# Altium integrated library Maxim Converter Analog to Digital.IntLib: 88 symbols (part 2 of 3)
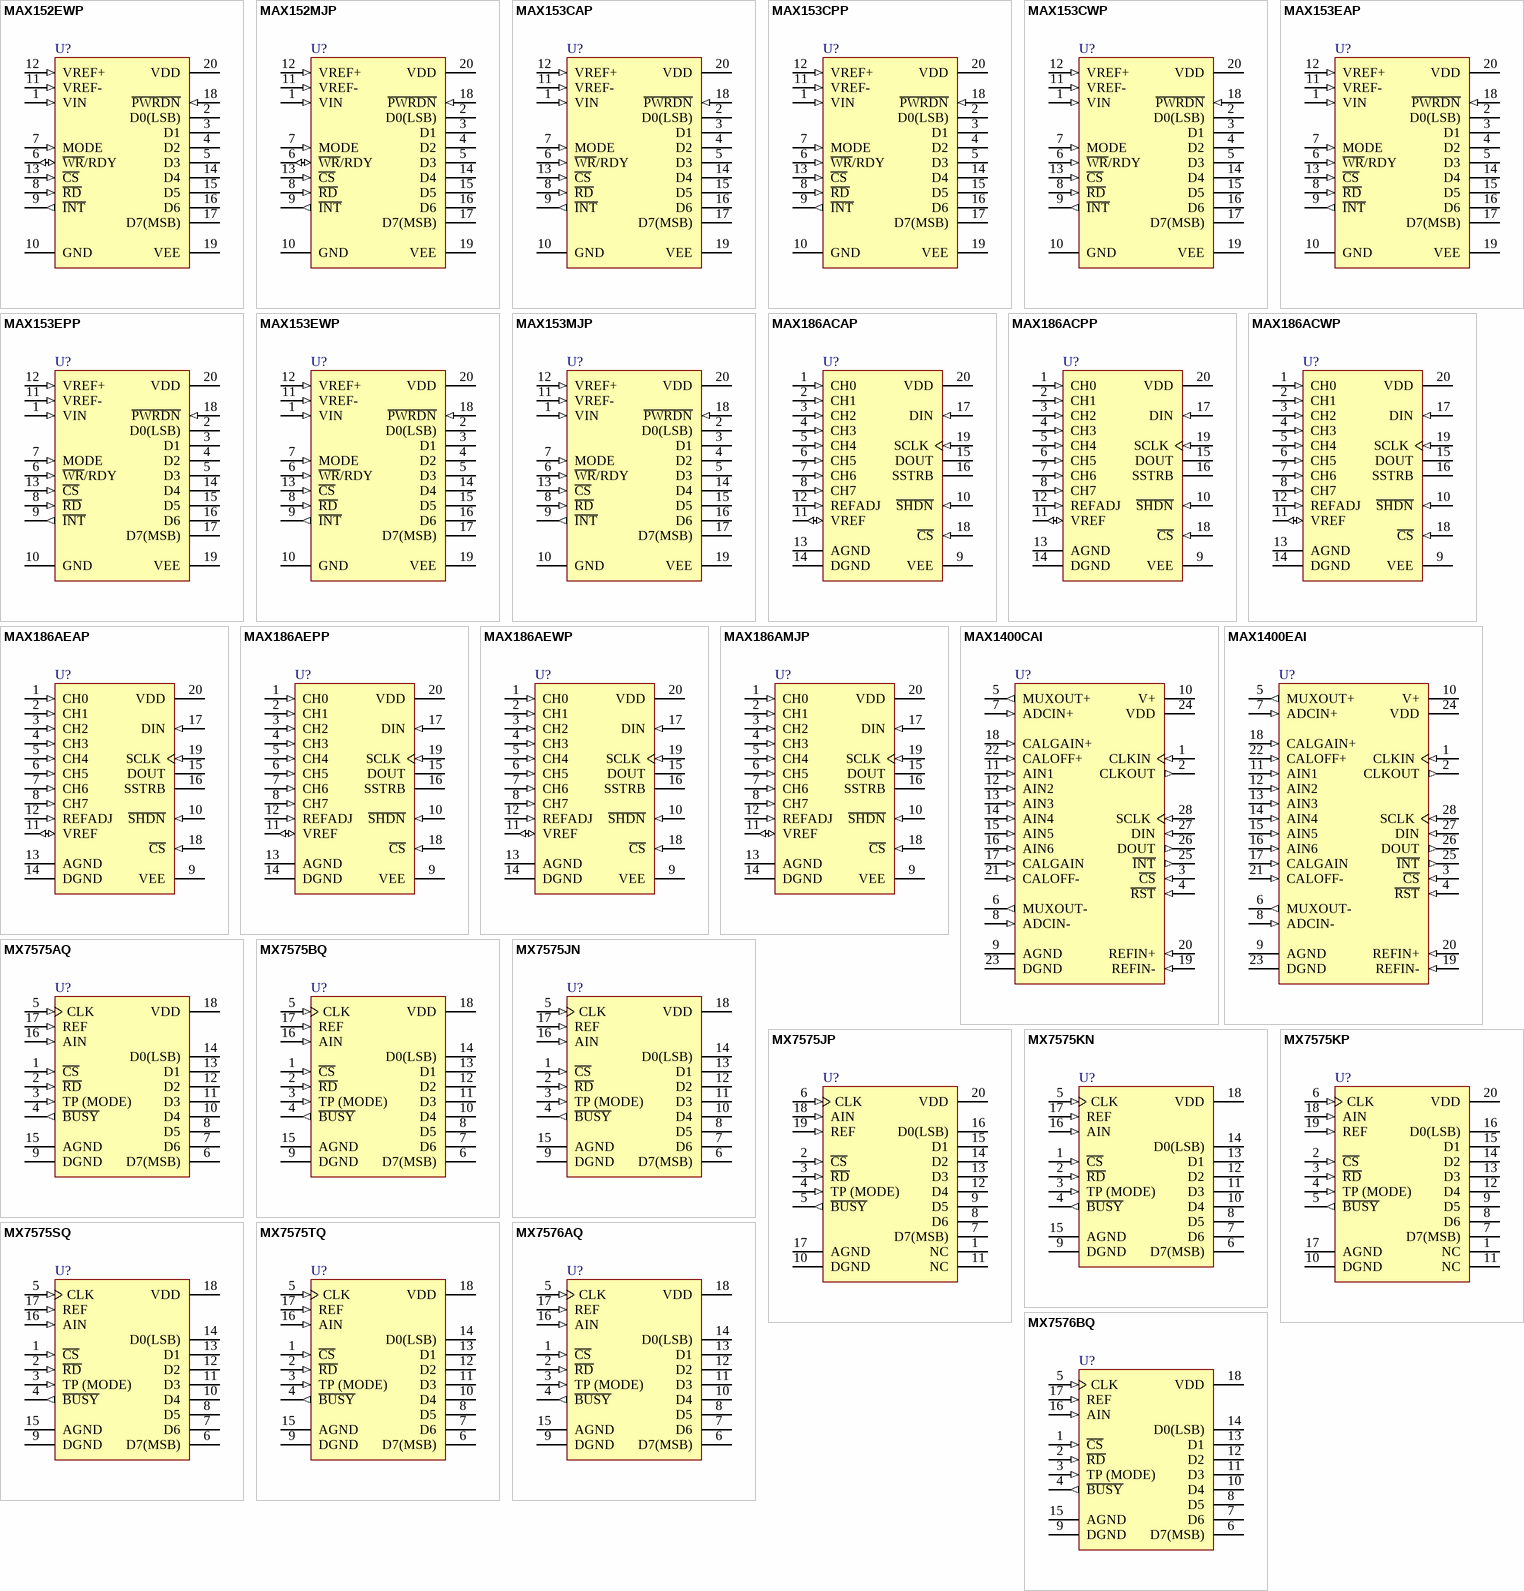
[diagram p4: symbols MAX152EWP to MX7576BQ]

## MAX153CAP
designator U?
1 Msps, µP-compatible, 8-Bit ADC with 1µA Power-Down; Published: 16-Jan-2001; LatestRevisionDate: 29-May-2009; LatestRevisionNote: IPC-7351 Footprint Added.; DatasheetVersion: Oct-1993; PackageVersion: 1997; PackageReference: SSOP20; Publisher: Altium Limited; PackageDescription: 20-Pin Small Outline Package 0.65 mm Pitch; Code_JEDEC: MO-150-AE; Code_IPC: SOP65P780-20; ComponentLink1Description: Manufacturer Link; ComponentLink1URL: http://www.maxim-ic.com/; ComponentLink2Description: Datasheet; ComponentLink2URL: http://pdfserv.maxim-ic.com/en/ds/MAX153.pdf
footprint SSOP20_N (SOP, 20-Leads, Body 7.2x5.3mm, Pitch 0.65mm, IPC Medium Density)
footprint SSOP20_L (SOP, 20-Leads, Body 7.2x5.3mm, Pitch 0.65mm, IPC High Density)
footprint SSOP20_M (SOP, 20-Leads, Body 7.2x5.3mm, Pitch 0.65mm, IPC Low Density)
3D model SSOP20 (20-Pin Small Outline Package 0.65 mm Pitch)
pins: 1 VIN (in), 2 D0(LSB) (hiz), 3 D1 (hiz), 4 D2 (hiz), 5 D3 (hiz), 6 ~{WR}/RDY (in), 7 MODE (in), 8 ~{RD} (in), 9 ~{INT} (out), 10 GND (power), 11 VREF- (in), 12 VREF+ (in), 13 ~{CS} (in), 14 D4 (hiz), 15 D5 (hiz), 16 D6 (hiz), 17 D7(MSB) (hiz), 18 ~{PWRDN} (in), 19 VEE (power), 20 VDD (power)

## MAX153CPP
designator U?
1 Msps, µP-compatible, 8-Bit ADC with 1µA Power-Down; Published: 16-Jan-2001; LatestRevisionDate: 29-May-2009; LatestRevisionNote: Component Body Added.; DatasheetVersion: Oct-1993; PackageVersion: RevB, 21-0043; PackageReference: PP20; Publisher: Altium Limited; PackageDescription: DIP, 20-Pin, Row Spacing 7.62 mm, Pitch 2.54 mm; Code_JEDEC: MS-001-AE; ComponentLink1Description: Manufacturer Link; ComponentLink1URL: http://www.maxim-ic.com/; ComponentLink2Description: Datasheet; ComponentLink2URL: http://pdfserv.maxim-ic.com/en/ds/MAX153.pdf
footprint PP20 (DIP, 20-Leads, Row Spacing 7.62mm, Pitch 2.54mm, Body 26.16x7.24mm)
3D model PP20 (DIP, 20-Pin, Row Spacing 7.62 mm, Pitch 2.54 mm)
pins: 1 VIN (in), 2 D0(LSB) (hiz), 3 D1 (hiz), 4 D2 (hiz), 5 D3 (hiz), 6 ~{WR}/RDY (in), 7 MODE (in), 8 ~{RD} (in), 9 ~{INT} (out), 10 GND (power), 11 VREF- (in), 12 VREF+ (in), 13 ~{CS} (in), 14 D4 (hiz), 15 D5 (hiz), 16 D6 (hiz), 17 D7(MSB) (hiz), 18 ~{PWRDN} (in), 19 VEE (power), 20 VDD (power)

## MAX153CWP
designator U?
1 Msps, µP-compatible, 8-Bit ADC with 1µA Power-Down; Published: 16-Jan-2001; LatestRevisionDate: 13-Apr-2006; LatestRevisionNote: IPC-7351 Footprint Added.; DatasheetVersion: Oct-1993; PackageReference: WSO20; Publisher: Altium Limited; PackageDescription: 20-Pin Small Outline Integrated Circuit 1.27 mm Pitch; Code_JEDEC: MS-013-AC; Code_IPC: SOIC127P1030-20; ComponentLink1Description: Manufacturer Link; ComponentLink1URL: http://www.maxim-ic.com/; ComponentLink2Description: Datasheet; ComponentLink2URL: http://pdfserv.maxim-ic.com/en/ds/MAX153.pdf
footprint WSO20_N (SOIC, 20-Leads, Body 12.8x7.5mm, Pitch 1.27mm, IPC Medium Density)
footprint WSO20_L (SOIC, 20-Leads, Body 12.8x7.5mm, Pitch 1.27mm, IPC High Density)
footprint WSO20_M (SOIC, 20-Leads, Body 12.8x7.5mm, Pitch 1.27mm, IPC Low Density)
3D model WSO20 (20-Pin Small Outline Integrated Circuit 1.27 mm Pitch)
pins: 1 VIN (in), 2 D0(LSB) (hiz), 3 D1 (hiz), 4 D2 (hiz), 5 D3 (hiz), 6 ~{WR}/RDY (in), 7 MODE (in), 8 ~{RD} (in), 9 ~{INT} (out), 10 GND (power), 11 VREF- (in), 12 VREF+ (in), 13 ~{CS} (in), 14 D4 (hiz), 15 D5 (hiz), 16 D6 (hiz), 17 D7(MSB) (hiz), 18 ~{PWRDN} (in), 19 VEE (power), 20 VDD (power)

## MAX153EAP
designator U?
1 Msps, µP-compatible, 8-Bit ADC with 1µA Power-Down; Published: 16-Jan-2001; LatestRevisionDate: 29-May-2009; LatestRevisionNote: IPC-7351 Footprint Added.; DatasheetVersion: Oct-1993; PackageVersion: 1997; PackageReference: SSOP20; Publisher: Altium Limited; PackageDescription: 20-Pin Small Outline Package 0.65 mm Pitch; Code_JEDEC: MO-150-AE; Code_IPC: SOP65P780-20; ComponentLink1Description: Manufacturer Link; ComponentLink1URL: http://www.maxim-ic.com/; ComponentLink2Description: Datasheet; ComponentLink2URL: http://pdfserv.maxim-ic.com/en/ds/MAX153.pdf
footprint SSOP20_N (SOP, 20-Leads, Body 7.2x5.3mm, Pitch 0.65mm, IPC Medium Density)
footprint SSOP20_L (SOP, 20-Leads, Body 7.2x5.3mm, Pitch 0.65mm, IPC High Density)
footprint SSOP20_M (SOP, 20-Leads, Body 7.2x5.3mm, Pitch 0.65mm, IPC Low Density)
3D model SSOP20 (20-Pin Small Outline Package 0.65 mm Pitch)
pins: 1 VIN (in), 2 D0(LSB) (hiz), 3 D1 (hiz), 4 D2 (hiz), 5 D3 (hiz), 6 ~{WR}/RDY (in), 7 MODE (in), 8 ~{RD} (in), 9 ~{INT} (out), 10 GND (power), 11 VREF- (in), 12 VREF+ (in), 13 ~{CS} (in), 14 D4 (hiz), 15 D5 (hiz), 16 D6 (hiz), 17 D7(MSB) (hiz), 18 ~{PWRDN} (in), 19 VEE (power), 20 VDD (power)

## MAX153EPP
designator U?
1 Msps, µP-compatible, 8-Bit ADC with 1µA Power-Down; Published: 16-Jan-2001; LatestRevisionDate: 29-May-2009; LatestRevisionNote: Component Body Added.; DatasheetVersion: Oct-1993; PackageVersion: RevB, 21-0043; PackageReference: PP20; Publisher: Altium Limited; PackageDescription: DIP, 20-Pin, Row Spacing 7.62 mm, Pitch 2.54 mm; Code_JEDEC: MS-001-AE; ComponentLink1Description: Manufacturer Link; ComponentLink1URL: http://www.maxim-ic.com/; ComponentLink2Description: Datasheet; ComponentLink2URL: http://pdfserv.maxim-ic.com/en/ds/MAX153.pdf
footprint PP20 (DIP, 20-Leads, Row Spacing 7.62mm, Pitch 2.54mm, Body 26.16x7.24mm)
3D model PP20 (DIP, 20-Pin, Row Spacing 7.62 mm, Pitch 2.54 mm)
pins: 1 VIN (in), 2 D0(LSB) (hiz), 3 D1 (hiz), 4 D2 (hiz), 5 D3 (hiz), 6 ~{WR}/RDY (in), 7 MODE (in), 8 ~{RD} (in), 9 ~{INT} (out), 10 GND (power), 11 VREF- (in), 12 VREF+ (in), 13 ~{CS} (in), 14 D4 (hiz), 15 D5 (hiz), 16 D6 (hiz), 17 D7(MSB) (hiz), 18 ~{PWRDN} (in), 19 VEE (power), 20 VDD (power)

## MAX153EWP
designator U?
1 Msps, µP-compatible, 8-Bit ADC with 1µA Power-Down; Published: 16-Jan-2001; LatestRevisionDate: 13-Apr-2006; LatestRevisionNote: IPC-7351 Footprint Added.; DatasheetVersion: Oct-1993; PackageReference: WSO20; Publisher: Altium Limited; PackageDescription: 20-Pin Small Outline Integrated Circuit 1.27 mm Pitch; Code_JEDEC: MS-013-AC; Code_IPC: SOIC127P1030-20; ComponentLink1Description: Manufacturer Link; ComponentLink1URL: http://www.maxim-ic.com/; ComponentLink2Description: Datasheet; ComponentLink2URL: http://pdfserv.maxim-ic.com/en/ds/MAX153.pdf
footprint WSO20_N (SOIC, 20-Leads, Body 12.8x7.5mm, Pitch 1.27mm, IPC Medium Density)
footprint WSO20_L (SOIC, 20-Leads, Body 12.8x7.5mm, Pitch 1.27mm, IPC High Density)
footprint WSO20_M (SOIC, 20-Leads, Body 12.8x7.5mm, Pitch 1.27mm, IPC Low Density)
3D model WSO20 (20-Pin Small Outline Integrated Circuit 1.27 mm Pitch)
pins: 1 VIN (in), 2 D0(LSB) (hiz), 3 D1 (hiz), 4 D2 (hiz), 5 D3 (hiz), 6 ~{WR}/RDY (in), 7 MODE (in), 8 ~{RD} (in), 9 ~{INT} (out), 10 GND (power), 11 VREF- (in), 12 VREF+ (in), 13 ~{CS} (in), 14 D4 (hiz), 15 D5 (hiz), 16 D6 (hiz), 17 D7(MSB) (hiz), 18 ~{PWRDN} (in), 19 VEE (power), 20 VDD (power)

## MAX153MJP
designator U?
1 Msps, µP-compatible, 8-Bit ADC with 1µA Power-Down; Published: 16-Jan-2001; LatestRevisionDate: 29-May-2009; LatestRevisionNote: Component Body Added.; DatasheetVersion: Oct-1993; PackageVersion: 1996; PackageReference: JP20; Publisher: Altium Limited; PackageDescription: DIP, 20-Pin, Row Spacing 7.62 mm, Pitch 2.54 mm; Code_JEDEC: MS-001-AD; ComponentLink1Description: Manufacturer Link; ComponentLink1URL: http://www.maxim-ic.com/; ComponentLink2Description: Datasheet; ComponentLink2URL: http://pdfserv.maxim-ic.com/en/ds/MAX153.pdf
footprint JP20 (DIP, 20-Leads, Row Spacing 7.62mm, Pitch 2.54mm, Body 25.91x6.73mm)
3D model PP20 (DIP, 20-Pin, Row Spacing 7.62 mm, Pitch 2.54 mm)
pins: 1 VIN (in), 2 D0(LSB) (hiz), 3 D1 (hiz), 4 D2 (hiz), 5 D3 (hiz), 6 ~{WR}/RDY (in), 7 MODE (in), 8 ~{RD} (in), 9 ~{INT} (out), 10 GND (power), 11 VREF- (in), 12 VREF+ (in), 13 ~{CS} (in), 14 D4 (hiz), 15 D5 (hiz), 16 D6 (hiz), 17 D7(MSB) (hiz), 18 ~{PWRDN} (in), 19 VEE (power), 20 VDD (power)

## MAX186ACAP
designator U?
Low-Power, 8-Channel Serial 12-Bit ADCs; Published: 16-Jan-2001; LatestRevisionDate: 29-May-2009; LatestRevisionNote: IPC-7351 Footprint Added.; DatasheetVersion: Aug-1996; PackageVersion: 1997; PackageReference: SSOP20; Publisher: Altium Limited; PackageDescription: 20-Pin Small Outline Package 0.65 mm Pitch; Code_JEDEC: MO-150-AE; Code_IPC: SOP65P780-20; ComponentLink1Description: Manufacturer Link; ComponentLink1URL: http://www.maxim-ic.com/; ComponentLink2Description: Datasheet; ComponentLink2URL: http://pdfserv.maxim-ic.com/en/ds/MAX186-MAX188.pdf
footprint SSOP20_N (SOP, 20-Leads, Body 7.2x5.3mm, Pitch 0.65mm, IPC Medium Density)
footprint SSOP20_L (SOP, 20-Leads, Body 7.2x5.3mm, Pitch 0.65mm, IPC High Density)
footprint SSOP20_M (SOP, 20-Leads, Body 7.2x5.3mm, Pitch 0.65mm, IPC Low Density)
3D model SSOP20 (20-Pin Small Outline Package 0.65 mm Pitch)
pins: 1 CH0 (in), 2 CH1 (in), 3 CH2 (in), 4 CH3 (in), 5 CH4 (in), 6 CH5 (in), 7 CH6 (in), 8 CH7 (in), 9 VEE (power), 10 ~{SHDN} (in), 11 VREF (io), 12 REFADJ (in), 13 AGND (power), 14 DGND (power), 15 DOUT (hiz), 16 SSTRB (hiz), 17 DIN (in), 18 ~{CS} (in), 19 SCLK (in), 20 VDD (power)

## MAX186ACPP
designator U?
Low-Power, 8-Channel Serial 12-Bit ADCs; Published: 16-Jan-2001; LatestRevisionDate: 29-May-2009; LatestRevisionNote: Component Body Added.; DatasheetVersion: Aug-1996; PackageVersion: RevB, 21-0043; PackageReference: PP20; Publisher: Altium Limited; PackageDescription: DIP, 20-Pin, Row Spacing 7.62 mm, Pitch 2.54 mm; Code_JEDEC: MS-001-AE; ComponentLink1Description: Manufacturer Link; ComponentLink1URL: http://www.maxim-ic.com/; ComponentLink2Description: Datasheet; ComponentLink2URL: http://pdfserv.maxim-ic.com/en/ds/MAX186-MAX188.pdf
footprint PP20 (DIP, 20-Leads, Row Spacing 7.62mm, Pitch 2.54mm, Body 26.16x7.24mm)
3D model PP20 (DIP, 20-Pin, Row Spacing 7.62 mm, Pitch 2.54 mm)
pins: 1 CH0 (in), 2 CH1 (in), 3 CH2 (in), 4 CH3 (in), 5 CH4 (in), 6 CH5 (in), 7 CH6 (in), 8 CH7 (in), 9 VEE (power), 10 ~{SHDN} (in), 11 VREF (io), 12 REFADJ (in), 13 AGND (power), 14 DGND (power), 15 DOUT (hiz), 16 SSTRB (hiz), 17 DIN (in), 18 ~{CS} (in), 19 SCLK (in), 20 VDD (power)

## MAX186ACWP
designator U?
Low-Power, 8-Channel Serial 12-Bit ADCs; Published: 16-Jan-2001; LatestRevisionDate: 13-Apr-2006; LatestRevisionNote: IPC-7351 Footprint Added.; DatasheetVersion: Aug-1996; PackageReference: WSO20; Publisher: Altium Limited; PackageDescription: 20-Pin Small Outline Integrated Circuit 1.27 mm Pitch; Code_JEDEC: MS-013-AC; Code_IPC: SOIC127P1030-20; ComponentLink1Description: Manufacturer Link; ComponentLink1URL: http://www.maxim-ic.com/; ComponentLink2Description: Datasheet; ComponentLink2URL: http://pdfserv.maxim-ic.com/en/ds/MAX186-MAX188.pdf
footprint WSO20_N (SOIC, 20-Leads, Body 12.8x7.5mm, Pitch 1.27mm, IPC Medium Density)
footprint WSO20_L (SOIC, 20-Leads, Body 12.8x7.5mm, Pitch 1.27mm, IPC High Density)
footprint WSO20_M (SOIC, 20-Leads, Body 12.8x7.5mm, Pitch 1.27mm, IPC Low Density)
3D model WSO20 (20-Pin Small Outline Integrated Circuit 1.27 mm Pitch)
pins: 1 CH0 (in), 2 CH1 (in), 3 CH2 (in), 4 CH3 (in), 5 CH4 (in), 6 CH5 (in), 7 CH6 (in), 8 CH7 (in), 9 VEE (power), 10 ~{SHDN} (in), 11 VREF (io), 12 REFADJ (in), 13 AGND (power), 14 DGND (power), 15 DOUT (hiz), 16 SSTRB (hiz), 17 DIN (in), 18 ~{CS} (in), 19 SCLK (in), 20 VDD (power)

## MAX186AEAP
designator U?
Low-Power, 8-Channel Serial 12-Bit ADCs; Published: 16-Jan-2001; LatestRevisionDate: 29-May-2009; LatestRevisionNote: IPC-7351 Footprint Added.; DatasheetVersion: Aug-1996; PackageVersion: 1997; PackageReference: SSOP20; Publisher: Altium Limited; PackageDescription: 20-Pin Small Outline Package 0.65 mm Pitch; Code_JEDEC: MO-150-AE; Code_IPC: SOP65P780-20; ComponentLink1Description: Manufacturer Link; ComponentLink1URL: http://www.maxim-ic.com/; ComponentLink2Description: Datasheet; ComponentLink2URL: http://pdfserv.maxim-ic.com/en/ds/MAX186-MAX188.pdf
footprint SSOP20_N (SOP, 20-Leads, Body 7.2x5.3mm, Pitch 0.65mm, IPC Medium Density)
footprint SSOP20_L (SOP, 20-Leads, Body 7.2x5.3mm, Pitch 0.65mm, IPC High Density)
footprint SSOP20_M (SOP, 20-Leads, Body 7.2x5.3mm, Pitch 0.65mm, IPC Low Density)
3D model SSOP20 (20-Pin Small Outline Package 0.65 mm Pitch)
pins: 1 CH0 (in), 2 CH1 (in), 3 CH2 (in), 4 CH3 (in), 5 CH4 (in), 6 CH5 (in), 7 CH6 (in), 8 CH7 (in), 9 VEE (power), 10 ~{SHDN} (in), 11 VREF (io), 12 REFADJ (in), 13 AGND (power), 14 DGND (power), 15 DOUT (hiz), 16 SSTRB (hiz), 17 DIN (in), 18 ~{CS} (in), 19 SCLK (in), 20 VDD (power)

## MAX186AEPP
designator U?
Low-Power, 8-Channel Serial 12-Bit ADCs; Published: 16-Jan-2001; LatestRevisionDate: 29-May-2009; LatestRevisionNote: Component Body Added.; DatasheetVersion: Aug-1996; PackageVersion: RevB, 21-0043; PackageReference: PP20; Publisher: Altium Limited; PackageDescription: DIP, 20-Pin, Row Spacing 7.62 mm, Pitch 2.54 mm; Code_JEDEC: MS-001-AE; ComponentLink1Description: Manufacturer Link; ComponentLink1URL: http://www.maxim-ic.com/; ComponentLink2Description: Datasheet; ComponentLink2URL: http://pdfserv.maxim-ic.com/en/ds/MAX186-MAX188.pdf
footprint PP20 (DIP, 20-Leads, Row Spacing 7.62mm, Pitch 2.54mm, Body 26.16x7.24mm)
3D model PP20 (DIP, 20-Pin, Row Spacing 7.62 mm, Pitch 2.54 mm)
pins: 1 CH0 (in), 2 CH1 (in), 3 CH2 (in), 4 CH3 (in), 5 CH4 (in), 6 CH5 (in), 7 CH6 (in), 8 CH7 (in), 9 VEE (power), 10 ~{SHDN} (in), 11 VREF (io), 12 REFADJ (in), 13 AGND (power), 14 DGND (power), 15 DOUT (hiz), 16 SSTRB (hiz), 17 DIN (in), 18 ~{CS} (in), 19 SCLK (in), 20 VDD (power)

## MAX186AEWP
designator U?
Low-Power, 8-Channel Serial 12-Bit ADCs; Published: 16-Jan-2001; LatestRevisionDate: 13-Apr-2006; LatestRevisionNote: IPC-7351 Footprint Added.; DatasheetVersion: Aug-1996; PackageReference: WSO20; Publisher: Altium Limited; PackageDescription: 20-Pin Small Outline Integrated Circuit 1.27 mm Pitch; Code_JEDEC: MS-013-AC; Code_IPC: SOIC127P1030-20; ComponentLink1Description: Manufacturer Link; ComponentLink1URL: http://www.maxim-ic.com/; ComponentLink2Description: Datasheet; ComponentLink2URL: http://pdfserv.maxim-ic.com/en/ds/MAX186-MAX188.pdf
footprint WSO20_N (SOIC, 20-Leads, Body 12.8x7.5mm, Pitch 1.27mm, IPC Medium Density)
footprint WSO20_L (SOIC, 20-Leads, Body 12.8x7.5mm, Pitch 1.27mm, IPC High Density)
footprint WSO20_M (SOIC, 20-Leads, Body 12.8x7.5mm, Pitch 1.27mm, IPC Low Density)
3D model WSO20 (20-Pin Small Outline Integrated Circuit 1.27 mm Pitch)
pins: 1 CH0 (in), 2 CH1 (in), 3 CH2 (in), 4 CH3 (in), 5 CH4 (in), 6 CH5 (in), 7 CH6 (in), 8 CH7 (in), 9 VEE (power), 10 ~{SHDN} (in), 11 VREF (io), 12 REFADJ (in), 13 AGND (power), 14 DGND (power), 15 DOUT (hiz), 16 SSTRB (hiz), 17 DIN (in), 18 ~{CS} (in), 19 SCLK (in), 20 VDD (power)

## MAX186AMJP
designator U?
Low-Power, 8-Channel Serial 12-Bit ADCs; Published: 16-Jan-2001; LatestRevisionDate: 29-May-2009; LatestRevisionNote: Component Body Added.; DatasheetVersion: Aug-1996; PackageVersion: 1996; PackageReference: JP20; Publisher: Altium Limited; PackageDescription: DIP, 20-Pin, Row Spacing 7.62 mm, Pitch 2.54 mm; Code_JEDEC: MS-001-AD; ComponentLink1Description: Manufacturer Link; ComponentLink1URL: http://www.maxim-ic.com/; ComponentLink2Description: Datasheet; ComponentLink2URL: http://pdfserv.maxim-ic.com/en/ds/MAX186-MAX188.pdf
footprint JP20 (DIP, 20-Leads, Row Spacing 7.62mm, Pitch 2.54mm, Body 25.91x6.73mm)
3D model PP20 (DIP, 20-Pin, Row Spacing 7.62 mm, Pitch 2.54 mm)
pins: 1 CH0 (in), 2 CH1 (in), 3 CH2 (in), 4 CH3 (in), 5 CH4 (in), 6 CH5 (in), 7 CH6 (in), 8 CH7 (in), 9 VEE (power), 10 ~{SHDN} (in), 11 VREF (io), 12 REFADJ (in), 13 AGND (power), 14 DGND (power), 15 DOUT (hiz), 16 SSTRB (hiz), 17 DIN (in), 18 ~{CS} (in), 19 SCLK (in), 20 VDD (power)

## MAX1400CAI
designator U?
+5V, 18-Bit, Low-Power, Multichannel, Oversampling (Sigma-Delta) ADC; Published: 16-Jan-2001; LatestRevisionDate: 29-May-2009; LatestRevisionNote: IPC-7351 Footprint Added.; DatasheetVersion: Feb-1999; PackageVersion: Jul-2000; PackageReference: SSOP28; Publisher: Altium Limited; PackageDescription: 28-Pin Small Outline Package 0.65 mm Pitch; Code_JEDEC: MO-150-AH; Code_IPC: SOP65P780-28; ComponentLink1Description: Manufacturer Link; ComponentLink1URL: http://www.maxim-ic.com/; ComponentLink2Description: Datasheet; ComponentLink2URL: http://pdfserv.maxim-ic.com/en/ds/MAX1400.pdf
footprint SSOP28_N (SOP, 28-Leads, Body 10.2x5.3mm, Pitch 0.65mm, IPC Medium Density)
footprint SSOP28_L (SOP, 28-Leads, Body 10.2x5.3mm, Pitch 0.65mm, IPC High Density)
footprint SSOP28_M (SOP, 28-Leads, Body 10.2x5.3mm, Pitch 0.65mm, IPC Low Density)
3D model SSOP28 (28-Pin Small Outline Package 0.65 mm Pitch)
pins: 1 CLKIN (in), 2 CLKOUT (out), 3 ~{CS} (in), 4 ~{RST} (in), 5 MUXOUT+ (out), 6 MUXOUT- (out), 7 ADCIN+ (in), 8 ADCIN- (in), 9 AGND (power), 10 V+ (power), 11 AIN1 (in), 12 AIN2 (in), 13 AIN3 (in), 14 AIN4 (in), 15 AIN5 (in), 16 AIN6 (in), 17 CALGAIN (in), 18 CALGAIN+ (in), 19 REFIN- (in), 20 REFIN+ (in), 21 CALOFF- (in), 22 CALOFF+ (in), 23 DGND (power), 24 VDD (power), 25 ~{INT} (out), 26 DOUT (out), 27 DIN (in), 28 SCLK (in)

## MAX1400EAI
designator U?
+5V, 18-Bit, Low-Power, Multichannel, Oversampling (Sigma-Delta) ADC; Published: 16-Jan-2001; LatestRevisionDate: 29-May-2009; LatestRevisionNote: IPC-7351 Footprint Added.; DatasheetVersion: Feb-1999; PackageVersion: Jul-2000; PackageReference: SSOP28; Publisher: Altium Limited; PackageDescription: 28-Pin Small Outline Package 0.65 mm Pitch; Code_JEDEC: MO-150-AH; Code_IPC: SOP65P780-28; ComponentLink1Description: Manufacturer Link; ComponentLink1URL: http://www.maxim-ic.com/; ComponentLink2Description: Datasheet; ComponentLink2URL: http://pdfserv.maxim-ic.com/en/ds/MAX1400.pdf
footprint SSOP28_N (SOP, 28-Leads, Body 10.2x5.3mm, Pitch 0.65mm, IPC Medium Density)
footprint SSOP28_L (SOP, 28-Leads, Body 10.2x5.3mm, Pitch 0.65mm, IPC High Density)
footprint SSOP28_M (SOP, 28-Leads, Body 10.2x5.3mm, Pitch 0.65mm, IPC Low Density)
3D model SSOP28 (28-Pin Small Outline Package 0.65 mm Pitch)
pins: 1 CLKIN (in), 2 CLKOUT (out), 3 ~{CS} (in), 4 ~{RST} (in), 5 MUXOUT+ (out), 6 MUXOUT- (out), 7 ADCIN+ (in), 8 ADCIN- (in), 9 AGND (power), 10 V+ (power), 11 AIN1 (in), 12 AIN2 (in), 13 AIN3 (in), 14 AIN4 (in), 15 AIN5 (in), 16 AIN6 (in), 17 CALGAIN (in), 18 CALGAIN+ (in), 19 REFIN- (in), 20 REFIN+ (in), 21 CALOFF- (in), 22 CALOFF+ (in), 23 DGND (power), 24 VDD (power), 25 ~{INT} (out), 26 DOUT (out), 27 DIN (in), 28 SCLK (in)

## MX7575AQ
designator U?
CMOS, µP-Compatible, 5µs 8-Bit ADCs; Published: 16-Jan-2001; LatestRevisionDate: 29-May-2009; LatestRevisionNote: Component Body Added.; DatasheetVersion: May-1996; PackageVersion: 1996; PackageReference: JN18; Publisher: Altium Limited; PackageDescription: DIP, 18-Pin, Row Spacing 7.62 mm, Pitch 2.54 mm; ComponentLink1Description: Manufacturer Link; ComponentLink1URL: http://www.maxim-ic.com/; ComponentLink2Description: Datasheet; ComponentLink2URL: http://pdfserv.maxim-ic.com/en/ds/MX7575-MX7576.pdf
footprint JN18 (DIP, 18-Leads, Row Spacing 7.62mm, Pitch 2.54mm, Body 24.13x6.73mm)
3D model JN18 (DIP, 18-Pin, Row Spacing 7.62 mm, Pitch 2.54 mm)
pins: 1 ~{CS} (in), 2 ~{RD} (in), 3 TP (MODE) (in), 4 ~{BUSY} (out), 5 CLK (in), 6 D7(MSB) (hiz), 7 D6 (hiz), 8 D5 (hiz), 9 DGND (power), 10 D4 (hiz), 11 D3 (hiz), 12 D2 (hiz), 13 D1 (hiz), 14 D0(LSB) (hiz), 15 AGND (power), 16 AIN (in), 17 REF (in), 18 VDD (power)

## MX7575BQ
designator U?
CMOS, µP-Compatible, 5µs 8-Bit ADCs; Published: 16-Jan-2001; LatestRevisionDate: 29-May-2009; LatestRevisionNote: Component Body Added.; DatasheetVersion: May-1996; PackageVersion: 1996; PackageReference: JN18; Publisher: Altium Limited; PackageDescription: DIP, 18-Pin, Row Spacing 7.62 mm, Pitch 2.54 mm; ComponentLink1Description: Manufacturer Link; ComponentLink1URL: http://www.maxim-ic.com/; ComponentLink2Description: Datasheet; ComponentLink2URL: http://pdfserv.maxim-ic.com/en/ds/MX7575-MX7576.pdf
footprint JN18 (DIP, 18-Leads, Row Spacing 7.62mm, Pitch 2.54mm, Body 24.13x6.73mm)
3D model JN18 (DIP, 18-Pin, Row Spacing 7.62 mm, Pitch 2.54 mm)
pins: 1 ~{CS} (in), 2 ~{RD} (in), 3 TP (MODE) (in), 4 ~{BUSY} (out), 5 CLK (in), 6 D7(MSB) (hiz), 7 D6 (hiz), 8 D5 (hiz), 9 DGND (power), 10 D4 (hiz), 11 D3 (hiz), 12 D2 (hiz), 13 D1 (hiz), 14 D0(LSB) (hiz), 15 AGND (power), 16 AIN (in), 17 REF (in), 18 VDD (power)

## MX7575JN
designator U?
CMOS, µP-Compatible, 5µs 8-Bit ADCs; Published: 16-Jan-2001; LatestRevisionDate: 29-May-2009; LatestRevisionNote: Component Body Added.; DatasheetVersion: May-1996; PackageVersion: 1997; PackageReference: PN18A; Publisher: Altium Limited; PackageDescription: DIP, 18-Pin, Row Spacing 7.62 mm, Pitch 2.54 mm; ComponentLink1Description: Manufacturer Link; ComponentLink1URL: http://www.maxim-ic.com/; ComponentLink2Description: Datasheet; ComponentLink2URL: http://pdfserv.maxim-ic.com/en/ds/MX7575-MX7576.pdf
footprint PN18A (DIP, 18-Leads, Row Spacing 7.62mm, Pitch 2.54mm, Body 22.86x6.99mm)
3D model PN18 (DIP, 18-Pin, Row Spacing 7.62 mm, Pitch 2.54 mm)
pins: 1 ~{CS} (in), 2 ~{RD} (in), 3 TP (MODE) (in), 4 ~{BUSY} (out), 5 CLK (in), 6 D7(MSB) (hiz), 7 D6 (hiz), 8 D5 (hiz), 9 DGND (power), 10 D4 (hiz), 11 D3 (hiz), 12 D2 (hiz), 13 D1 (hiz), 14 D0(LSB) (hiz), 15 AGND (power), 16 AIN (in), 17 REF (in), 18 VDD (power)

## MX7575JP
designator U?
CMOS, µP-Compatible, 5µs 8-Bit ADCs; Published: 16-Jan-2001; LatestRevisionDate: 13-Apr-2006; LatestRevisionNote: IPC-7351 Footprint Added.; DatasheetVersion: May-1996; PackageReference: PLCC20; Publisher: Altium Limited; PackageDescription: 20-Pin Leaded Chip Carrier 1.27 mm Pitch; Code_IPC: PLCC-20; ComponentLink1Description: Manufacturer Link; ComponentLink1URL: http://www.maxim-ic.com/; ComponentLink2Description: Datasheet; ComponentLink2URL: http://pdfserv.maxim-ic.com/en/ds/MX7575-MX7576.pdf
footprint PLCC20_N (Leaded Chip Carrier, 20-Leads, Body 9x9mm, Pitch 1.27mm, IPC Medium Density)
footprint PLCC20_L (Leaded Chip Carrier, 20-Leads, Body 9x9mm, Pitch 1.27mm, IPC High Density)
footprint PLCC20_M (Leaded Chip Carrier, 20-Leads, Body 9x9mm, Pitch 1.27mm, IPC Low Density)
3D model MX7575-PLCC20 (20-Pin Leaded Chip Carrier 1.27 mm Pitch)
pins: 1 NC, 2 ~{CS} (in), 3 ~{RD} (in), 4 TP (MODE) (in), 5 ~{BUSY} (out), 6 CLK (in), 7 D7(MSB) (hiz), 8 D6 (hiz), 9 D5 (hiz), 10 DGND (power), 11 NC, 12 D4 (hiz), 13 D3 (hiz), 14 D2 (hiz), 15 D1 (hiz), 16 D0(LSB) (hiz), 17 AGND (power), 18 AIN (in), 19 REF (in), 20 VDD (power)

## MX7575KN
designator U?
CMOS, µP-Compatible, 5µs 8-Bit ADCs; Published: 16-Jan-2001; LatestRevisionDate: 29-May-2009; LatestRevisionNote: Component Body Added.; DatasheetVersion: May-1996; PackageVersion: 1997; PackageReference: PN18A; Publisher: Altium Limited; PackageDescription: DIP, 18-Pin, Row Spacing 7.62 mm, Pitch 2.54 mm; ComponentLink1Description: Manufacturer Link; ComponentLink1URL: http://www.maxim-ic.com/; ComponentLink2Description: Datasheet; ComponentLink2URL: http://pdfserv.maxim-ic.com/en/ds/MX7575-MX7576.pdf
footprint PN18A (DIP, 18-Leads, Row Spacing 7.62mm, Pitch 2.54mm, Body 22.86x6.99mm)
3D model PN18 (DIP, 18-Pin, Row Spacing 7.62 mm, Pitch 2.54 mm)
pins: 1 ~{CS} (in), 2 ~{RD} (in), 3 TP (MODE) (in), 4 ~{BUSY} (out), 5 CLK (in), 6 D7(MSB) (hiz), 7 D6 (hiz), 8 D5 (hiz), 9 DGND (power), 10 D4 (hiz), 11 D3 (hiz), 12 D2 (hiz), 13 D1 (hiz), 14 D0(LSB) (hiz), 15 AGND (power), 16 AIN (in), 17 REF (in), 18 VDD (power)

## MX7575KP
designator U?
CMOS, µP-Compatible, 5µs 8-Bit ADCs; Published: 16-Jan-2001; LatestRevisionDate: 13-Apr-2006; LatestRevisionNote: IPC-7351 Footprint Added.; DatasheetVersion: May-1996; PackageReference: PLCC20; Publisher: Altium Limited; PackageDescription: 20-Pin Leaded Chip Carrier 1.27 mm Pitch; Code_IPC: PLCC-20; ComponentLink1Description: Manufacturer Link; ComponentLink1URL: http://www.maxim-ic.com/; ComponentLink2Description: Datasheet; ComponentLink2URL: http://pdfserv.maxim-ic.com/en/ds/MX7575-MX7576.pdf
footprint PLCC20_N (Leaded Chip Carrier, 20-Leads, Body 9x9mm, Pitch 1.27mm, IPC Medium Density)
footprint PLCC20_L (Leaded Chip Carrier, 20-Leads, Body 9x9mm, Pitch 1.27mm, IPC High Density)
footprint PLCC20_M (Leaded Chip Carrier, 20-Leads, Body 9x9mm, Pitch 1.27mm, IPC Low Density)
3D model MX7575-PLCC20 (20-Pin Leaded Chip Carrier 1.27 mm Pitch)
pins: 1 NC, 2 ~{CS} (in), 3 ~{RD} (in), 4 TP (MODE) (in), 5 ~{BUSY} (out), 6 CLK (in), 7 D7(MSB) (hiz), 8 D6 (hiz), 9 D5 (hiz), 10 DGND (power), 11 NC, 12 D4 (hiz), 13 D3 (hiz), 14 D2 (hiz), 15 D1 (hiz), 16 D0(LSB) (hiz), 17 AGND (power), 18 AIN (in), 19 REF (in), 20 VDD (power)

## MX7575SQ
designator U?
CMOS, µP-Compatible, 5µs 8-Bit ADCs; Published: 16-Jan-2001; LatestRevisionDate: 29-May-2009; LatestRevisionNote: Component Body Added.; DatasheetVersion: May-1996; PackageVersion: 1996; PackageReference: JN18; Publisher: Altium Limited; PackageDescription: DIP, 18-Pin, Row Spacing 7.62 mm, Pitch 2.54 mm; ComponentLink1Description: Manufacturer Link; ComponentLink1URL: http://www.maxim-ic.com/; ComponentLink2Description: Datasheet; ComponentLink2URL: http://pdfserv.maxim-ic.com/en/ds/MX7575-MX7576.pdf
footprint JN18 (DIP, 18-Leads, Row Spacing 7.62mm, Pitch 2.54mm, Body 24.13x6.73mm)
3D model JN18 (DIP, 18-Pin, Row Spacing 7.62 mm, Pitch 2.54 mm)
pins: 1 ~{CS} (in), 2 ~{RD} (in), 3 TP (MODE) (in), 4 ~{BUSY} (out), 5 CLK (in), 6 D7(MSB) (hiz), 7 D6 (hiz), 8 D5 (hiz), 9 DGND (power), 10 D4 (hiz), 11 D3 (hiz), 12 D2 (hiz), 13 D1 (hiz), 14 D0(LSB) (hiz), 15 AGND (power), 16 AIN (in), 17 REF (in), 18 VDD (power)

## MX7575TQ
designator U?
CMOS, µP-Compatible, 5µs 8-Bit ADCs; Published: 16-Jan-2001; LatestRevisionDate: 29-May-2009; LatestRevisionNote: Component Body Added.; DatasheetVersion: May-1996; PackageVersion: 1996; PackageReference: JN18; Publisher: Altium Limited; PackageDescription: DIP, 18-Pin, Row Spacing 7.62 mm, Pitch 2.54 mm; ComponentLink1Description: Manufacturer Link; ComponentLink1URL: http://www.maxim-ic.com/; ComponentLink2Description: Datasheet; ComponentLink2URL: http://pdfserv.maxim-ic.com/en/ds/MX7575-MX7576.pdf
footprint JN18 (DIP, 18-Leads, Row Spacing 7.62mm, Pitch 2.54mm, Body 24.13x6.73mm)
3D model JN18 (DIP, 18-Pin, Row Spacing 7.62 mm, Pitch 2.54 mm)
pins: 1 ~{CS} (in), 2 ~{RD} (in), 3 TP (MODE) (in), 4 ~{BUSY} (out), 5 CLK (in), 6 D7(MSB) (hiz), 7 D6 (hiz), 8 D5 (hiz), 9 DGND (power), 10 D4 (hiz), 11 D3 (hiz), 12 D2 (hiz), 13 D1 (hiz), 14 D0(LSB) (hiz), 15 AGND (power), 16 AIN (in), 17 REF (in), 18 VDD (power)

## MX7576AQ
designator U?
CMOS, µP-Compatible, 10µs 8-Bit ADCs; Published: 16-Jan-2001; LatestRevisionDate: 29-May-2009; LatestRevisionNote: Component Body Added.; DatasheetVersion: May-1996; PackageVersion: 1996; PackageReference: JN18; Publisher: Altium Limited; PackageDescription: DIP, 18-Pin, Row Spacing 7.62 mm, Pitch 2.54 mm; ComponentLink1Description: Manufacturer Link; ComponentLink1URL: http://www.maxim-ic.com/; ComponentLink2Description: Datasheet; ComponentLink2URL: http://pdfserv.maxim-ic.com/en/ds/MX7575-MX7576.pdf
footprint JN18 (DIP, 18-Leads, Row Spacing 7.62mm, Pitch 2.54mm, Body 24.13x6.73mm)
3D model JN18 (DIP, 18-Pin, Row Spacing 7.62 mm, Pitch 2.54 mm)
pins: 1 ~{CS} (in), 2 ~{RD} (in), 3 TP (MODE) (in), 4 ~{BUSY} (out), 5 CLK (in), 6 D7(MSB) (hiz), 7 D6 (hiz), 8 D5 (hiz), 9 DGND (power), 10 D4 (hiz), 11 D3 (hiz), 12 D2 (hiz), 13 D1 (hiz), 14 D0(LSB) (hiz), 15 AGND (power), 16 AIN (in), 17 REF (in), 18 VDD (power)

## MX7576BQ
designator U?
CMOS, µP-Compatible, 10µs 8-Bit ADCs; Published: 16-Jan-2001; LatestRevisionDate: 29-May-2009; LatestRevisionNote: Component Body Added.; DatasheetVersion: May-1996; PackageVersion: 1996; PackageReference: JN18; Publisher: Altium Limited; PackageDescription: DIP, 18-Pin, Row Spacing 7.62 mm, Pitch 2.54 mm; ComponentLink1Description: Manufacturer Link; ComponentLink1URL: http://www.maxim-ic.com/; ComponentLink2Description: Datasheet; ComponentLink2URL: http://pdfserv.maxim-ic.com/en/ds/MX7575-MX7576.pdf
footprint JN18 (DIP, 18-Leads, Row Spacing 7.62mm, Pitch 2.54mm, Body 24.13x6.73mm)
3D model JN18 (DIP, 18-Pin, Row Spacing 7.62 mm, Pitch 2.54 mm)
pins: 1 ~{CS} (in), 2 ~{RD} (in), 3 TP (MODE) (in), 4 ~{BUSY} (out), 5 CLK (in), 6 D7(MSB) (hiz), 7 D6 (hiz), 8 D5 (hiz), 9 DGND (power), 10 D4 (hiz), 11 D3 (hiz), 12 D2 (hiz), 13 D1 (hiz), 14 D0(LSB) (hiz), 15 AGND (power), 16 AIN (in), 17 REF (in), 18 VDD (power)

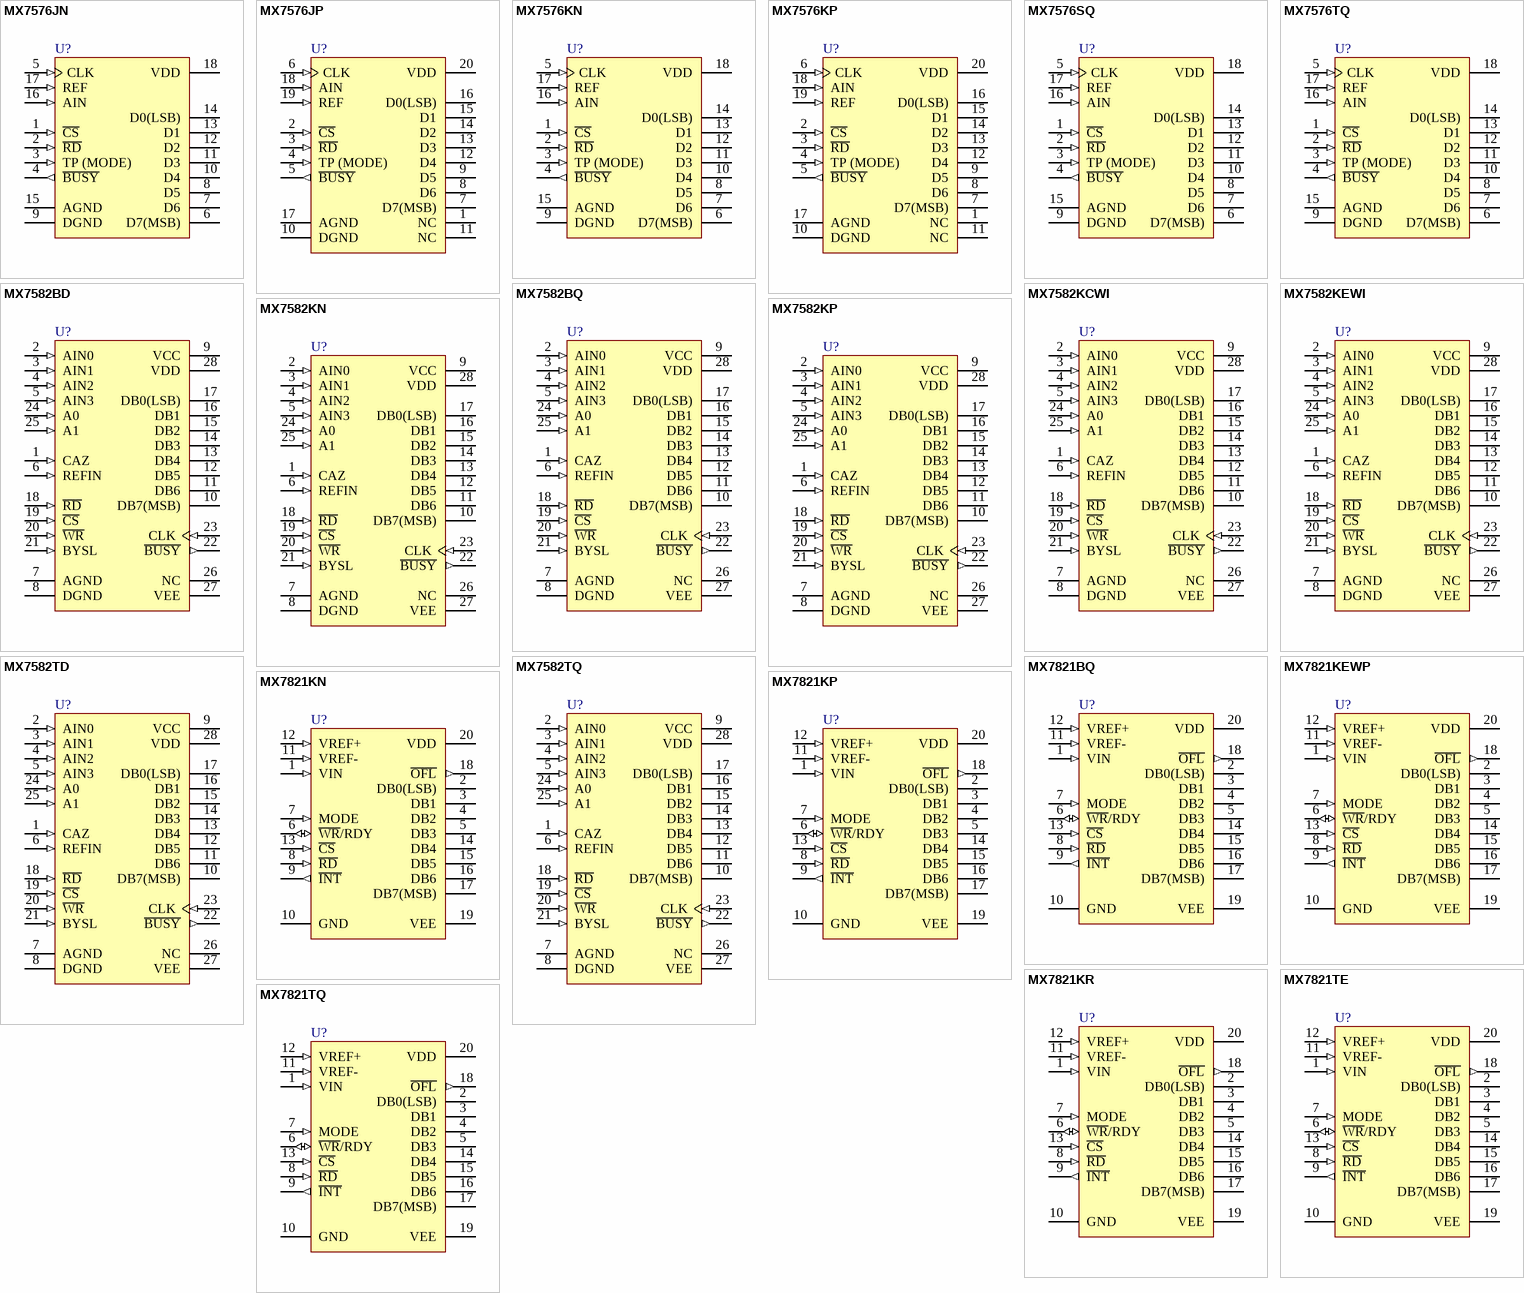
[diagram p3: symbols MX7576JN to MX7821TQ]

## MX7576JN
designator U?
CMOS, µP-Compatible, 10µs 8-Bit ADCs; Published: 16-Jan-2001; LatestRevisionDate: 29-May-2009; LatestRevisionNote: Component Body Added.; DatasheetVersion: May-1996; PackageVersion: 1997; PackageReference: PN18A; Publisher: Altium Limited; PackageDescription: DIP, 18-Pin, Row Spacing 7.62 mm, Pitch 2.54 mm; ComponentLink1Description: Manufacturer Link; ComponentLink1URL: http://www.maxim-ic.com/; ComponentLink2Description: Datasheet; ComponentLink2URL: http://pdfserv.maxim-ic.com/en/ds/MX7575-MX7576.pdf
footprint PN18A (DIP, 18-Leads, Row Spacing 7.62mm, Pitch 2.54mm, Body 22.86x6.99mm)
3D model PN18 (DIP, 18-Pin, Row Spacing 7.62 mm, Pitch 2.54 mm)
pins: 1 ~{CS} (in), 2 ~{RD} (in), 3 TP (MODE) (in), 4 ~{BUSY} (out), 5 CLK (in), 6 D7(MSB) (hiz), 7 D6 (hiz), 8 D5 (hiz), 9 DGND (power), 10 D4 (hiz), 11 D3 (hiz), 12 D2 (hiz), 13 D1 (hiz), 14 D0(LSB) (hiz), 15 AGND (power), 16 AIN (in), 17 REF (in), 18 VDD (power)

## MX7576JP
designator U?
CMOS, µP-Compatible, 10µs 8-Bit ADCs; Published: 16-Jan-2001; LatestRevisionDate: 13-Apr-2006; LatestRevisionNote: IPC-7351 Footprint Added.; DatasheetVersion: May-1996; PackageReference: PLCC20; Publisher: Altium Limited; PackageDescription: 20-Pin Leaded Chip Carrier 1.27 mm Pitch; Code_IPC: PLCC-20; ComponentLink1Description: Manufacturer Link; ComponentLink1URL: http://www.maxim-ic.com/; ComponentLink2Description: Datasheet; ComponentLink2URL: http://pdfserv.maxim-ic.com/en/ds/MX7575-MX7576.pdf
footprint PLCC20_N (Leaded Chip Carrier, 20-Leads, Body 9x9mm, Pitch 1.27mm, IPC Medium Density)
footprint PLCC20_L (Leaded Chip Carrier, 20-Leads, Body 9x9mm, Pitch 1.27mm, IPC High Density)
footprint PLCC20_M (Leaded Chip Carrier, 20-Leads, Body 9x9mm, Pitch 1.27mm, IPC Low Density)
3D model MX7576-PLCC20 (20-Pin Leaded Chip Carrier 1.27 mm Pitch)
pins: 1 NC, 2 ~{CS} (in), 3 ~{RD} (in), 4 TP (MODE) (in), 5 ~{BUSY} (out), 6 CLK (in), 7 D7(MSB) (hiz), 8 D6 (hiz), 9 D5 (hiz), 10 DGND (power), 11 NC, 12 D4 (hiz), 13 D3 (hiz), 14 D2 (hiz), 15 D1 (hiz), 16 D0(LSB) (hiz), 17 AGND (power), 18 AIN (in), 19 REF (in), 20 VDD (power)

## MX7576KN
designator U?
CMOS, µP-Compatible, 10µs 8-Bit ADCs; Published: 16-Jan-2001; LatestRevisionDate: 29-May-2009; LatestRevisionNote: Component Body Added.; DatasheetVersion: May-1996; PackageVersion: 1997; PackageReference: PN18A; Publisher: Altium Limited; PackageDescription: DIP, 18-Pin, Row Spacing 7.62 mm, Pitch 2.54 mm; ComponentLink1Description: Manufacturer Link; ComponentLink1URL: http://www.maxim-ic.com/; ComponentLink2Description: Datasheet; ComponentLink2URL: http://pdfserv.maxim-ic.com/en/ds/MX7575-MX7576.pdf
footprint PN18A (DIP, 18-Leads, Row Spacing 7.62mm, Pitch 2.54mm, Body 22.86x6.99mm)
3D model PN18 (DIP, 18-Pin, Row Spacing 7.62 mm, Pitch 2.54 mm)
pins: 1 ~{CS} (in), 2 ~{RD} (in), 3 TP (MODE) (in), 4 ~{BUSY} (out), 5 CLK (in), 6 D7(MSB) (hiz), 7 D6 (hiz), 8 D5 (hiz), 9 DGND (power), 10 D4 (hiz), 11 D3 (hiz), 12 D2 (hiz), 13 D1 (hiz), 14 D0(LSB) (hiz), 15 AGND (power), 16 AIN (in), 17 REF (in), 18 VDD (power)

## MX7576KP
designator U?
CMOS, µP-Compatible, 10µs 8-Bit ADCs; Published: 16-Jan-2001; LatestRevisionDate: 13-Apr-2006; LatestRevisionNote: IPC-7351 Footprint Added.; DatasheetVersion: May-1996; PackageReference: PLCC20; Publisher: Altium Limited; PackageDescription: 20-Pin Leaded Chip Carrier 1.27 mm Pitch; Code_IPC: PLCC-20; ComponentLink1Description: Manufacturer Link; ComponentLink1URL: http://www.maxim-ic.com/; ComponentLink2Description: Datasheet; ComponentLink2URL: http://pdfserv.maxim-ic.com/en/ds/MX7575-MX7576.pdf
footprint PLCC20_N (Leaded Chip Carrier, 20-Leads, Body 9x9mm, Pitch 1.27mm, IPC Medium Density)
footprint PLCC20_L (Leaded Chip Carrier, 20-Leads, Body 9x9mm, Pitch 1.27mm, IPC High Density)
footprint PLCC20_M (Leaded Chip Carrier, 20-Leads, Body 9x9mm, Pitch 1.27mm, IPC Low Density)
3D model MX7576-PLCC20 (20-Pin Leaded Chip Carrier 1.27 mm Pitch)
pins: 1 NC, 2 ~{CS} (in), 3 ~{RD} (in), 4 TP (MODE) (in), 5 ~{BUSY} (out), 6 CLK (in), 7 D7(MSB) (hiz), 8 D6 (hiz), 9 D5 (hiz), 10 DGND (power), 11 NC, 12 D4 (hiz), 13 D3 (hiz), 14 D2 (hiz), 15 D1 (hiz), 16 D0(LSB) (hiz), 17 AGND (power), 18 AIN (in), 19 REF (in), 20 VDD (power)

## MX7576SQ
designator U?
CMOS, µP-Compatible, 10µs 8-Bit ADCs; Published: 16-Jan-2001; LatestRevisionDate: 29-May-2009; LatestRevisionNote: Component Body Added.; DatasheetVersion: May-1996; PackageVersion: 1996; PackageReference: JN18; Publisher: Altium Limited; PackageDescription: DIP, 18-Pin, Row Spacing 7.62 mm, Pitch 2.54 mm; ComponentLink1Description: Manufacturer Link; ComponentLink1URL: http://www.maxim-ic.com/; ComponentLink2Description: Datasheet; ComponentLink2URL: http://pdfserv.maxim-ic.com/en/ds/MX7575-MX7576.pdf
footprint JN18 (DIP, 18-Leads, Row Spacing 7.62mm, Pitch 2.54mm, Body 24.13x6.73mm)
3D model JN18 (DIP, 18-Pin, Row Spacing 7.62 mm, Pitch 2.54 mm)
pins: 1 ~{CS} (in), 2 ~{RD} (in), 3 TP (MODE) (in), 4 ~{BUSY} (out), 5 CLK (in), 6 D7(MSB) (hiz), 7 D6 (hiz), 8 D5 (hiz), 9 DGND (power), 10 D4 (hiz), 11 D3 (hiz), 12 D2 (hiz), 13 D1 (hiz), 14 D0(LSB) (hiz), 15 AGND (power), 16 AIN (in), 17 REF (in), 18 VDD (power)

## MX7576TQ
designator U?
CMOS, µP-Compatible, 10µs 8-Bit ADCs; Published: 16-Jan-2001; LatestRevisionDate: 29-May-2009; LatestRevisionNote: Component Body Added.; DatasheetVersion: May-1996; PackageVersion: 1996; PackageReference: JN18; Publisher: Altium Limited; PackageDescription: DIP, 18-Pin, Row Spacing 7.62 mm, Pitch 2.54 mm; ComponentLink1Description: Manufacturer Link; ComponentLink1URL: http://www.maxim-ic.com/; ComponentLink2Description: Datasheet; ComponentLink2URL: http://pdfserv.maxim-ic.com/en/ds/MX7575-MX7576.pdf
footprint JN18 (DIP, 18-Leads, Row Spacing 7.62mm, Pitch 2.54mm, Body 24.13x6.73mm)
3D model JN18 (DIP, 18-Pin, Row Spacing 7.62 mm, Pitch 2.54 mm)
pins: 1 ~{CS} (in), 2 ~{RD} (in), 3 TP (MODE) (in), 4 ~{BUSY} (out), 5 CLK (in), 6 D7(MSB) (hiz), 7 D6 (hiz), 8 D5 (hiz), 9 DGND (power), 10 D4 (hiz), 11 D3 (hiz), 12 D2 (hiz), 13 D1 (hiz), 14 D0(LSB) (hiz), 15 AGND (power), 16 AIN (in), 17 REF (in), 18 VDD (power)

## MX7582BD
designator U?
Calibrated 4-Channel 12-Bit ADC; Published: 16-Jan-2001; LatestRevisionDate: 29-May-2009; LatestRevisionNote: Component Body Added.; DatasheetVersion: Jun-1996; PackageReference: PI28; Publisher: Altium Limited; PackageDescription: DIP, 28-Pin, Row Spacing 15.24 mm, Pitch 2.54 mm; ComponentLink1Description: Manufacturer Link; ComponentLink1URL: http://www.maxim-ic.com/; ComponentLink2Description: Datasheet; ComponentLink2URL: http://pdfserv.maxim-ic.com/en/ds/MX7582.pdf
footprint PI28 (DIP, 28-Leads, Row Spacing 15.24mm, Pitch 2.54mm, Body 36.83x13.98mm)
3D model JI28 (DIP, 28-Pin, Row Spacing 15.24 mm, Pitch 2.54 mm)
pins: 1 CAZ (in), 2 AIN0 (in), 3 AIN1 (in), 4 AIN2 (in), 5 AIN3 (in), 6 REFIN (in), 7 AGND (power), 8 DGND (power), 9 VCC (power), 10 DB7(MSB) (hiz), 11 DB6 (hiz), 12 DB5 (hiz), 13 DB4 (hiz), 14 DB3 (hiz), 15 DB2 (hiz), 16 DB1 (hiz), 17 DB0(LSB) (hiz), 18 ~{RD} (in), 19 ~{CS} (in), 20 ~{WR} (in), 21 BYSL (in), 22 ~{BUSY} (out), 23 CLK (in), 24 A0 (in), 25 A1 (in), 26 NC, 27 VEE (power), 28 VDD (power)

## MX7582BQ
designator U?
Calibrated 4-Channel 12-Bit ADC; Published: 16-Jan-2001; LatestRevisionDate: 29-May-2009; LatestRevisionNote: Component Body Added.; DatasheetVersion: Jun-1996; PackageReference: JI28A; Publisher: Altium Limited; PackageDescription: DIP, 28-Pin, Row Spacing 15.24 mm, Pitch 2.54 mm; ComponentLink1Description: Manufacturer Link; ComponentLink1URL: http://www.maxim-ic.com/; ComponentLink2Description: Datasheet; ComponentLink2URL: http://pdfserv.maxim-ic.com/en/ds/MX7582.pdf
footprint JI28A (DIP, 28-Leads, Row Spacing 15.24mm, Pitch 2.54mm, Body 37.15x14.1mm)
3D model JI28 (DIP, 28-Pin, Row Spacing 15.24 mm, Pitch 2.54 mm)
pins: 1 CAZ (in), 2 AIN0 (in), 3 AIN1 (in), 4 AIN2 (in), 5 AIN3 (in), 6 REFIN (in), 7 AGND (power), 8 DGND (power), 9 VCC (power), 10 DB7(MSB) (hiz), 11 DB6 (hiz), 12 DB5 (hiz), 13 DB4 (hiz), 14 DB3 (hiz), 15 DB2 (hiz), 16 DB1 (hiz), 17 DB0(LSB) (hiz), 18 ~{RD} (in), 19 ~{CS} (in), 20 ~{WR} (in), 21 BYSL (in), 22 ~{BUSY} (out), 23 CLK (in), 24 A0 (in), 25 A1 (in), 26 NC, 27 VEE (power), 28 VDD (power)

## MX7582KCWI
designator U?
Calibrated 4-Channel 12-Bit ADC; Published: 16-Jan-2001; LatestRevisionDate: 13-Apr-2006; LatestRevisionNote: IPC-7351 Footprint Added.; DatasheetVersion: Jun-1996; PackageReference: WSO28; Publisher: Altium Limited; PackageDescription: 28-Pin Small Outline Integrated Circuit 1.27 mm Pitch; ComponentLink1Description: Manufacturer Link; ComponentLink1URL: http://www.maxim-ic.com/; ComponentLink2Description: Datasheet; ComponentLink2URL: http://pdfserv.maxim-ic.com/en/ds/MX7582.pdf
footprint WSO28_N (SOIC, 28-Leads, Body 17.9x7.5mm, Pitch 1.27mm, IPC Medium Density)
footprint WSO28_L (SOIC, 28-Leads, Body 17.9x7.5mm, Pitch 1.27mm, IPC High Density)
footprint WSO28_M (SOIC, 28-Leads, Body 17.9x7.5mm, Pitch 1.27mm, IPC Low Density)
3D model WSO28 (28-Pin Small Outline Integrated Circuit 1.27 mm Pitch)
pins: 1 CAZ (in), 2 AIN0 (in), 3 AIN1 (in), 4 AIN2 (in), 5 AIN3 (in), 6 REFIN (in), 7 AGND (power), 8 DGND (power), 9 VCC (power), 10 DB7(MSB) (hiz), 11 DB6 (hiz), 12 DB5 (hiz), 13 DB4 (hiz), 14 DB3 (hiz), 15 DB2 (hiz), 16 DB1 (hiz), 17 DB0(LSB) (hiz), 18 ~{RD} (in), 19 ~{CS} (in), 20 ~{WR} (in), 21 BYSL (in), 22 ~{BUSY} (out), 23 CLK (in), 24 A0 (in), 25 A1 (in), 26 NC, 27 VEE (power), 28 VDD (power)

## MX7582KEWI
designator U?
Calibrated 4-Channel 12-Bit ADC; Published: 16-Jan-2001; LatestRevisionDate: 13-Apr-2006; LatestRevisionNote: IPC-7351 Footprint Added.; DatasheetVersion: Jun-1996; PackageReference: WSO28; Publisher: Altium Limited; PackageDescription: 28-Pin Small Outline Integrated Circuit 1.27 mm Pitch; ComponentLink1Description: Manufacturer Link; ComponentLink1URL: http://www.maxim-ic.com/; ComponentLink2Description: Datasheet; ComponentLink2URL: http://pdfserv.maxim-ic.com/en/ds/MX7582.pdf
footprint WSO28_N (SOIC, 28-Leads, Body 17.9x7.5mm, Pitch 1.27mm, IPC Medium Density)
footprint WSO28_L (SOIC, 28-Leads, Body 17.9x7.5mm, Pitch 1.27mm, IPC High Density)
footprint WSO28_M (SOIC, 28-Leads, Body 17.9x7.5mm, Pitch 1.27mm, IPC Low Density)
3D model WSO28 (28-Pin Small Outline Integrated Circuit 1.27 mm Pitch)
pins: 1 CAZ (in), 2 AIN0 (in), 3 AIN1 (in), 4 AIN2 (in), 5 AIN3 (in), 6 REFIN (in), 7 AGND (power), 8 DGND (power), 9 VCC (power), 10 DB7(MSB) (hiz), 11 DB6 (hiz), 12 DB5 (hiz), 13 DB4 (hiz), 14 DB3 (hiz), 15 DB2 (hiz), 16 DB1 (hiz), 17 DB0(LSB) (hiz), 18 ~{RD} (in), 19 ~{CS} (in), 20 ~{WR} (in), 21 BYSL (in), 22 ~{BUSY} (out), 23 CLK (in), 24 A0 (in), 25 A1 (in), 26 NC, 27 VEE (power), 28 VDD (power)

## MX7582KN
designator U?
Calibrated 4-Channel 12-Bit ADC; Published: 16-Jan-2001; LatestRevisionDate: 29-May-2009; LatestRevisionNote: Component Body Added.; DatasheetVersion: Jun-1996; PackageVersion: 1997; PackageReference: NI28A; Publisher: Altium Limited; PackageDescription: DIP, 28-Pin, Row Spacing 7.62 mm, Pitch 2.54 mm; ComponentLink1Description: Manufacturer Link; ComponentLink1URL: http://www.maxim-ic.com/; ComponentLink2Description: Datasheet; ComponentLink2URL: http://pdfserv.maxim-ic.com/en/ds/MX7582.pdf
footprint NI28A (DIP, 28-Leads, Row Spacing 7.62mm, Pitch 2.54mm, Body 34.8x6.99mm)
3D model NI28 (DIP, 28-Pin, Row Spacing 7.62 mm, Pitch 2.54 mm)
pins: 1 CAZ (in), 2 AIN0 (in), 3 AIN1 (in), 4 AIN2 (in), 5 AIN3 (in), 6 REFIN (in), 7 AGND (power), 8 DGND (power), 9 VCC (power), 10 DB7(MSB) (hiz), 11 DB6 (hiz), 12 DB5 (hiz), 13 DB4 (hiz), 14 DB3 (hiz), 15 DB2 (hiz), 16 DB1 (hiz), 17 DB0(LSB) (hiz), 18 ~{RD} (in), 19 ~{CS} (in), 20 ~{WR} (in), 21 BYSL (in), 22 ~{BUSY} (out), 23 CLK (in), 24 A0 (in), 25 A1 (in), 26 NC, 27 VEE (power), 28 VDD (power)

## MX7582KP
designator U?
Calibrated 4-Channel 12-Bit ADC; Published: 16-Jan-2001; LatestRevisionDate: 13-Apr-2006; LatestRevisionNote: IPC-7351 Footprint Added.; DatasheetVersion: Jun-1996; PackageReference: PLCC28; Publisher: Altium Limited; PackageDescription: 28-Pin Leaded Chip Carrier 1.27 mm Pitch; Code_IPC: PLCC-28; ComponentLink1Description: Manufacturer Link; ComponentLink1URL: http://www.maxim-ic.com/; ComponentLink2Description: Datasheet; ComponentLink2URL: http://pdfserv.maxim-ic.com/en/ds/MX7582.pdf
footprint PLCC28_N (Leaded Chip Carrier, 28-Leads, Body 11.5x11.5mm, Pitch 1.27mm, IPC Medium Density)
footprint PLCC28_L (Leaded Chip Carrier, 28-Leads, Body 11.5x11.5mm, Pitch 1.27mm, IPC High Density)
footprint PLCC28_M (Leaded Chip Carrier, 28-Leads, Body 11.5x11.5mm, Pitch 1.27mm, IPC Low Density)
3D model MX7582-PLCC28 (28-Pin Leaded Chip Carrier 1.27 mm Pitch)
pins: 1 CAZ (in), 2 AIN0 (in), 3 AIN1 (in), 4 AIN2 (in), 5 AIN3 (in), 6 REFIN (in), 7 AGND (power), 8 DGND (power), 9 VCC (power), 10 DB7(MSB) (hiz), 11 DB6 (hiz), 12 DB5 (hiz), 13 DB4 (hiz), 14 DB3 (hiz), 15 DB2 (hiz), 16 DB1 (hiz), 17 DB0(LSB) (hiz), 18 ~{RD} (in), 19 ~{CS} (in), 20 ~{WR} (in), 21 BYSL (in), 22 ~{BUSY} (out), 23 CLK (in), 24 A0 (in), 25 A1 (in), 26 NC, 27 VEE (power), 28 VDD (power)

## MX7582TD
designator U?
Calibrated 4-Channel 12-Bit ADC; Published: 16-Jan-2001; LatestRevisionDate: 29-May-2009; LatestRevisionNote: Component Body Added.; DatasheetVersion: Jun-1996; PackageReference: PI28; Publisher: Altium Limited; PackageDescription: DIP, 28-Pin, Row Spacing 15.24 mm, Pitch 2.54 mm; ComponentLink1Description: Manufacturer Link; ComponentLink1URL: http://www.maxim-ic.com/; ComponentLink2Description: Datasheet; ComponentLink2URL: http://pdfserv.maxim-ic.com/en/ds/MX7582.pdf
footprint PI28 (DIP, 28-Leads, Row Spacing 15.24mm, Pitch 2.54mm, Body 36.83x13.98mm)
3D model JI28 (DIP, 28-Pin, Row Spacing 15.24 mm, Pitch 2.54 mm)
pins: 1 CAZ (in), 2 AIN0 (in), 3 AIN1 (in), 4 AIN2 (in), 5 AIN3 (in), 6 REFIN (in), 7 AGND (power), 8 DGND (power), 9 VCC (power), 10 DB7(MSB) (hiz), 11 DB6 (hiz), 12 DB5 (hiz), 13 DB4 (hiz), 14 DB3 (hiz), 15 DB2 (hiz), 16 DB1 (hiz), 17 DB0(LSB) (hiz), 18 ~{RD} (in), 19 ~{CS} (in), 20 ~{WR} (in), 21 BYSL (in), 22 ~{BUSY} (out), 23 CLK (in), 24 A0 (in), 25 A1 (in), 26 NC, 27 VEE (power), 28 VDD (power)

## MX7582TQ
designator U?
Calibrated 4-Channel 12-Bit ADC; Published: 16-Jan-2001; LatestRevisionDate: 29-May-2009; LatestRevisionNote: Component Body Added.; DatasheetVersion: Jun-1996; PackageReference: JI28A; Publisher: Altium Limited; PackageDescription: DIP, 28-Pin, Row Spacing 15.24 mm, Pitch 2.54 mm; ComponentLink1Description: Manufacturer Link; ComponentLink1URL: http://www.maxim-ic.com/; ComponentLink2Description: Datasheet; ComponentLink2URL: http://pdfserv.maxim-ic.com/en/ds/MX7582.pdf
footprint JI28A (DIP, 28-Leads, Row Spacing 15.24mm, Pitch 2.54mm, Body 37.15x14.1mm)
3D model JI28 (DIP, 28-Pin, Row Spacing 15.24 mm, Pitch 2.54 mm)
pins: 1 CAZ (in), 2 AIN0 (in), 3 AIN1 (in), 4 AIN2 (in), 5 AIN3 (in), 6 REFIN (in), 7 AGND (power), 8 DGND (power), 9 VCC (power), 10 DB7(MSB) (hiz), 11 DB6 (hiz), 12 DB5 (hiz), 13 DB4 (hiz), 14 DB3 (hiz), 15 DB2 (hiz), 16 DB1 (hiz), 17 DB0(LSB) (hiz), 18 ~{RD} (in), 19 ~{CS} (in), 20 ~{WR} (in), 21 BYSL (in), 22 ~{BUSY} (out), 23 CLK (in), 24 A0 (in), 25 A1 (in), 26 NC, 27 VEE (power), 28 VDD (power)

## MX7821BQ
designator U?
660ns µP-Compatible, 8-Bit ADC with Track/Hold; Published: 16-Jan-2001; LatestRevisionDate: 29-May-2009; LatestRevisionNote: Component Body Added.; DatasheetVersion: Jul-1995; PackageVersion: 1996; PackageReference: JP20; Publisher: Altium Limited; PackageDescription: DIP, 20-Pin, Row Spacing 7.62 mm, Pitch 2.54 mm; Code_JEDEC: MS-001-AD; ComponentLink1Description: Manufacturer Link; ComponentLink1URL: http://www.maxim-ic.com/; ComponentLink2Description: Datasheet; ComponentLink2URL: http://pdfserv.maxim-ic.com/en/ds/MX7821.pdf
footprint JP20 (DIP, 20-Leads, Row Spacing 7.62mm, Pitch 2.54mm, Body 25.91x6.73mm)
3D model PP20 (DIP, 20-Pin, Row Spacing 7.62 mm, Pitch 2.54 mm)
pins: 1 VIN (in), 2 DB0(LSB) (hiz), 3 DB1 (hiz), 4 DB2 (hiz), 5 DB3 (hiz), 6 ~{WR}/RDY (io), 7 MODE (in), 8 ~{RD} (in), 9 ~{INT} (out), 10 GND (power), 11 VREF- (in), 12 VREF+ (in), 13 ~{CS} (in), 14 DB4 (hiz), 15 DB5 (hiz), 16 DB6 (hiz), 17 DB7(MSB) (hiz), 18 ~{OFL} (out), 19 VEE (power), 20 VDD (power)

## MX7821KEWP
designator U?
660ns µP-Compatible, 8-Bit ADC with Track/Hold; Published: 16-Jan-2001; LatestRevisionDate: 13-Apr-2006; LatestRevisionNote: IPC-7351 Footprint Added.; DatasheetVersion: Jul-1995; PackageReference: WSO20; Publisher: Altium Limited; PackageDescription: 20-Pin Small Outline Integrated Circuit 1.27 mm Pitch; Code_JEDEC: MS-013-AC; Code_IPC: SOIC127P1030-20; ComponentLink1Description: Manufacturer Link; ComponentLink1URL: http://www.maxim-ic.com/; ComponentLink2Description: Datasheet; ComponentLink2URL: http://pdfserv.maxim-ic.com/en/ds/MX7821.pdf
footprint WSO20_N (SOIC, 20-Leads, Body 12.8x7.5mm, Pitch 1.27mm, IPC Medium Density)
footprint WSO20_L (SOIC, 20-Leads, Body 12.8x7.5mm, Pitch 1.27mm, IPC High Density)
footprint WSO20_M (SOIC, 20-Leads, Body 12.8x7.5mm, Pitch 1.27mm, IPC Low Density)
3D model WSO20 (20-Pin Small Outline Integrated Circuit 1.27 mm Pitch)
pins: 1 VIN (in), 2 DB0(LSB) (hiz), 3 DB1 (hiz), 4 DB2 (hiz), 5 DB3 (hiz), 6 ~{WR}/RDY (io), 7 MODE (in), 8 ~{RD} (in), 9 ~{INT} (out), 10 GND (power), 11 VREF- (in), 12 VREF+ (in), 13 ~{CS} (in), 14 DB4 (hiz), 15 DB5 (hiz), 16 DB6 (hiz), 17 DB7(MSB) (hiz), 18 ~{OFL} (out), 19 VEE (power), 20 VDD (power)

## MX7821KN
designator U?
660ns µP-Compatible, 8-Bit ADC with Track/Hold; Published: 16-Jan-2001; LatestRevisionDate: 29-May-2009; LatestRevisionNote: Component Body Added.; DatasheetVersion: Jul-1995; PackageVersion: RevB, 21-0043; PackageReference: PP20; Publisher: Altium Limited; PackageDescription: DIP, 20-Pin, Row Spacing 7.62 mm, Pitch 2.54 mm; Code_JEDEC: MS-001-AE; ComponentLink1Description: Manufacturer Link; ComponentLink1URL: http://www.maxim-ic.com/; ComponentLink2Description: Datasheet; ComponentLink2URL: http://pdfserv.maxim-ic.com/en/ds/MX7821.pdf
footprint PP20 (DIP, 20-Leads, Row Spacing 7.62mm, Pitch 2.54mm, Body 26.16x7.24mm)
3D model PP20 (DIP, 20-Pin, Row Spacing 7.62 mm, Pitch 2.54 mm)
pins: 1 VIN (in), 2 DB0(LSB) (hiz), 3 DB1 (hiz), 4 DB2 (hiz), 5 DB3 (hiz), 6 ~{WR}/RDY (io), 7 MODE (in), 8 ~{RD} (in), 9 ~{INT} (out), 10 GND (power), 11 VREF- (in), 12 VREF+ (in), 13 ~{CS} (in), 14 DB4 (hiz), 15 DB5 (hiz), 16 DB6 (hiz), 17 DB7(MSB) (hiz), 18 ~{OFL} (out), 19 VEE (power), 20 VDD (power)

## MX7821KP
designator U?
660ns µP-Compatible, 8-Bit ADC with Track/Hold; Published: 16-Jan-2001; LatestRevisionDate: 13-Apr-2006; LatestRevisionNote: IPC-7351 Footprint Added.; DatasheetVersion: Jul-1995; PackageReference: PLCC20; Publisher: Altium Limited; PackageDescription: 20-Pin Leaded Chip Carrier 1.27 mm Pitch; Code_IPC: PLCC-20; ComponentLink1Description: Manufacturer Link; ComponentLink1URL: http://www.maxim-ic.com/; ComponentLink2Description: Datasheet; ComponentLink2URL: http://pdfserv.maxim-ic.com/en/ds/MX7821.pdf
footprint PLCC20_N (Leaded Chip Carrier, 20-Leads, Body 9x9mm, Pitch 1.27mm, IPC Medium Density)
footprint PLCC20_L (Leaded Chip Carrier, 20-Leads, Body 9x9mm, Pitch 1.27mm, IPC High Density)
footprint PLCC20_M (Leaded Chip Carrier, 20-Leads, Body 9x9mm, Pitch 1.27mm, IPC Low Density)
3D model MX7821-PLCC20 (20-Pin Leaded Chip Carrier 1.27 mm Pitch)
pins: 1 VIN (in), 2 DB0(LSB) (hiz), 3 DB1 (hiz), 4 DB2 (hiz), 5 DB3 (hiz), 6 ~{WR}/RDY (io), 7 MODE (in), 8 ~{RD} (in), 9 ~{INT} (out), 10 GND (power), 11 VREF- (in), 12 VREF+ (in), 13 ~{CS} (in), 14 DB4 (hiz), 15 DB5 (hiz), 16 DB6 (hiz), 17 DB7(MSB) (hiz), 18 ~{OFL} (out), 19 VEE (power), 20 VDD (power)

## MX7821KR
designator U?
660ns µP-Compatible, 8-Bit ADC with Track/Hold; Published: 16-Jan-2001; LatestRevisionDate: 13-Apr-2006; LatestRevisionNote: IPC-7351 Footprint Added.; DatasheetVersion: Jul-1995; PackageReference: WSO20; Publisher: Altium Limited; PackageDescription: 20-Pin Small Outline Integrated Circuit 1.27 mm Pitch; Code_JEDEC: MS-013-AC; Code_IPC: SOIC127P1030-20; ComponentLink1Description: Manufacturer Link; ComponentLink1URL: http://www.maxim-ic.com/; ComponentLink2Description: Datasheet; ComponentLink2URL: http://pdfserv.maxim-ic.com/en/ds/MX7821.pdf
footprint WSO20_N (SOIC, 20-Leads, Body 12.8x7.5mm, Pitch 1.27mm, IPC Medium Density)
footprint WSO20_L (SOIC, 20-Leads, Body 12.8x7.5mm, Pitch 1.27mm, IPC High Density)
footprint WSO20_M (SOIC, 20-Leads, Body 12.8x7.5mm, Pitch 1.27mm, IPC Low Density)
3D model WSO20 (20-Pin Small Outline Integrated Circuit 1.27 mm Pitch)
pins: 1 VIN (in), 2 DB0(LSB) (hiz), 3 DB1 (hiz), 4 DB2 (hiz), 5 DB3 (hiz), 6 ~{WR}/RDY (io), 7 MODE (in), 8 ~{RD} (in), 9 ~{INT} (out), 10 GND (power), 11 VREF- (in), 12 VREF+ (in), 13 ~{CS} (in), 14 DB4 (hiz), 15 DB5 (hiz), 16 DB6 (hiz), 17 DB7(MSB) (hiz), 18 ~{OFL} (out), 19 VEE (power), 20 VDD (power)